# Altium footprint library SamacSys.PcbLib: 35 footprints (part 1 of 3)
Each footprint in its own frame and in the unit in brackets; x right, y up, seen from the top. Pads: shape width x height; smd on the part's side, far side on the other; paste and mask are expansions set on the pad; w line width, h text height; cw(c..) or ccw(c..) is an arc to the next point about the centre after c.
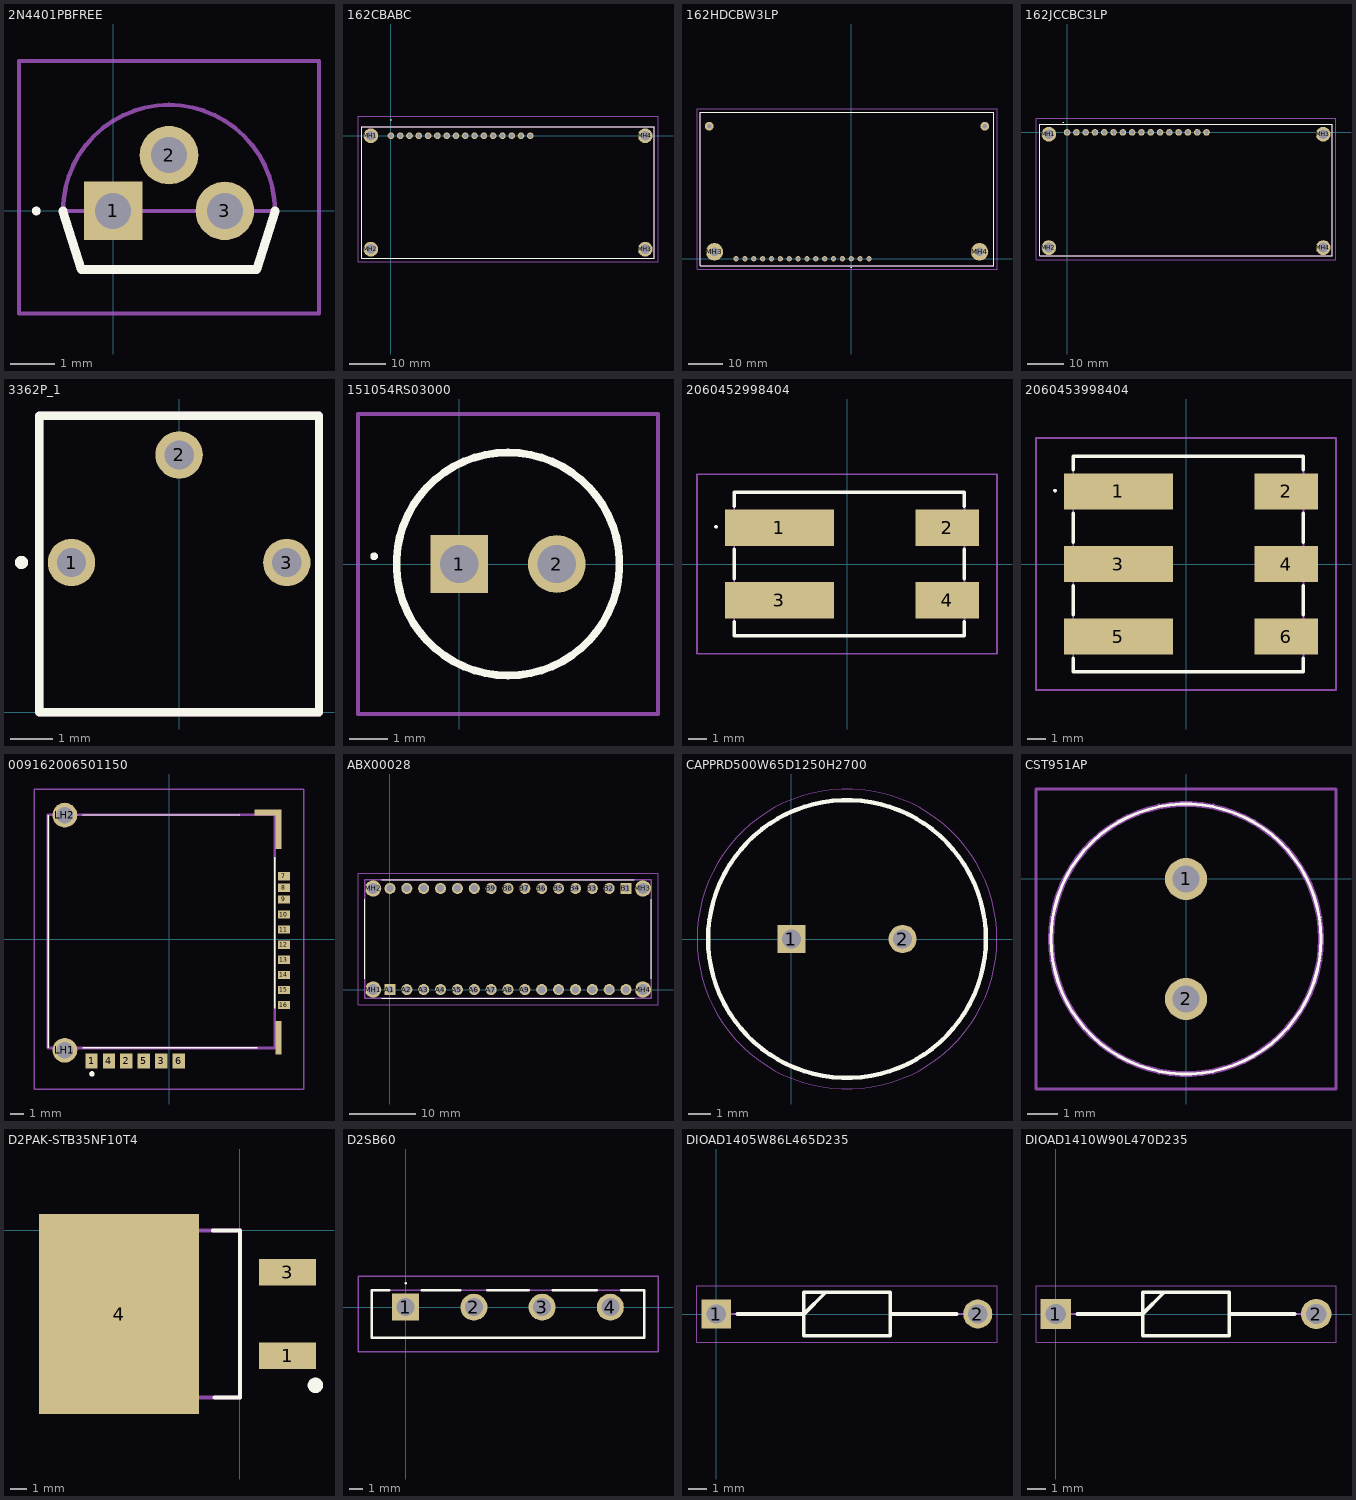
[diagram p0: the footprints below, top view; thin cyan lines are the x and y axes]

## 2N4401PBFREE [mm]
pads (3):
  rect 1.333x1.333 hole 0.82: 1(0,0)
  round 1.333 hole 0.82: 2(1.27,1.27) 3(2.54,0)
Top Overlay:
  lines w0.1: -1.8,0 cw(c-1.75,0) -1.7,0 cw(c-1.75,0) -1.8,0
  lines w0.2: -1.145,0 -0.73,-1.335 3.27,-1.335 3.685,0
Mechanical 13:
  lines w0.1: -1.145,0 cw(c1.27,0) 3.685,0 ; -1.145,0 -0.73,-1.335 3.27,-1.335 3.685,0 ; -1.145,0 3.685,0
Mechanical 15:
  lines w0.1: -2.145,-2.335 -2.145,3.415 4.685,3.415 4.685,-2.335 -2.145,-2.335
3D body "2N4401_PBFREE.stp": height 6.06, standoff -13.46, extent -1.17,-1.3 3.59,2.33

## 162CBABC [mm]
pads (20):
  round 1.8 hole 1.2: 1(0,0) 2(2.54,0) 3(5.08,0) 4(7.62,0) 5(10.16,0) 6(12.7,0) 7(15.24,0) 8(17.78,0) 9(20.32,0) 10(22.86,0) 11(25.4,0) 12(27.94,0) 13(30.48,0) 14(33.02,0) 15(35.56,0) 16(38.1,0)
  round 4.05 hole 2.7: MH1(-5.5,0) MH2(-5.5,-31) MH3(69.5,-31) MH4(69.5,0)
Top Overlay:
  lines w0.1: -8,-33.5 -8,2.5 72,2.5 72,-33.5 -8,-33.5
  lines w0.2: 0,4.3 ccw(c0,4.35) 0,4.4 ; 0,4.3 cw(c0,4.35) 0,4.4 ; 0,4.3 ccw(c0,4.35) 0,4.4
Mechanical 13:
  lines w0.2: -8,-33.5 -8,2.5 72,2.5 72,-33.5 -8,-33.5
Mechanical 15:
  lines w0.1: -9,-34.5 -9,5.4 73,5.4 73,-34.5 -9,-34.5
3D body "162C-BA-BC.stp": height 10.39, standoff -3.81, extent -7.96,-33.72 72.04,2.28

## 162HDCBW3LP [mm]
pads (20):
  round 1.5 hole 1: 1(0,0) 2(-2.54,0) 3(-5.08,0) 4(-7.62,0) 5(-10.16,0) 6(-12.7,0) 7(-15.24,0) 8(-17.78,0) 9(-20.32,0) 10(-22.86,0) 11(-25.4,0) 12(-27.94,0) 13(-30.48,0) 14(-33.02,0) 15(5.08,0) 16(2.54,0)
  round 2.5 hole 1.25: MH1(-40.72,38) MH2(38.28,38)
  round 5 hole 2.5: MH3(-39.22,2) MH4(36.78,2)
Top Overlay:
  lines w0.1: 0,-2.6 ccw(c0,-2.55) 0,-2.5 ccw(c0,-2.55) 0,-2.6
  lines w0.2: -43.22,-2 40.78,-2 40.78,42 -43.22,42 -43.22,-2
Mechanical 13:
  lines w0.1: -43.22,-2 40.78,-2 40.78,42 -43.22,42 -43.22,-2
Mechanical 15:
  lines w0.1: -44.22,-3 41.78,-3 41.78,43 -44.22,43 -44.22,-3
3D body "162H_DC_BW-3LP.stp": height 13.3, standoff -5, extent -43.22,-2 40.78,42

## 162JCCBC3LP [mm]
pads (20):
  round 1.8 hole 1.2: 1(0,0) 2(2.54,0) 3(5.08,0) 4(7.62,0) 5(10.16,0) 6(12.7,0) 7(15.24,0) 8(17.78,0) 9(20.32,0) 10(22.86,0) 11(25.4,0) 12(27.94,0) 13(30.48,0) 14(33.02,0) 15(35.56,0) 16(38.1,0)
  round 4.05 hole 2.7: MH1(-5,-0.5) MH2(-5,-31.5) MH3(70,-0.5) MH4(70,-31.5)
Top Overlay:
  lines w0.1: -7.5,-33.75 72.5,-33.75 72.5,2.25 -7.5,2.25 -7.5,-33.75
  lines w0.2: -1.1,2.75 cw(c-1.05,2.75) -1,2.75 cw(c-1.05,2.75) -1.1,2.75
Mechanical 13:
  lines w0.2: -7.5,-33.75 72.5,-33.75 72.5,2.25 -7.5,2.25 -7.5,-33.75
Mechanical 15:
  lines w0.1: -8.5,-34.75 73.5,-34.75 73.5,3.8 -8.5,3.8 -8.5,-34.75
3D body "162J_CC_BC-3LP.stp": height 13.2, standoff 0, extent -7.5,-33.47 72.5,2.53

## 3362P_1 [mm]
pads (3):
  round 1.12 hole 0.69: 1(-2.54,3.53) 2(0,6.07) 3(2.54,3.53)
Top Overlay:
  circle w0.2: c-3.722,3.532 r0.057
  lines w0.2: -3.3,0 3.3,0 3.3,6.99 -3.3,6.99 -3.3,0
Mechanical 13:
  lines w0.2: -3.3,0 -3.3,6.99 3.3,6.99 3.3,0 -3.3,0
3D body "3362P-1-104LF.stp": height 3.22, standoff -6.28, extent -3.24,-0.04 3.36,6.95

## 151054RS03000 [mm]
pads (2):
  rect 1.5x1.5 hole 1: 1(0,0)
  round 1.5 hole 1: 2(2.54,0)
Top Overlay:
  lines w0.1: -2.26,0.2 cw(c-2.21,0.2) -2.16,0.2 cw(c-2.21,0.2) -2.26,0.2
  lines w0.2: 1.27,-2.9 ccw(c1.27,0) 1.27,2.9 ccw(c1.27,0) 1.27,-2.9
Mechanical 13:
  lines w0.1: 1.27,-2.9 ccw(c1.27,0) 1.27,2.9 ccw(c1.27,0) 1.27,-2.9
Mechanical 15:
  lines w0.1: -2.63,-3.9 -2.63,3.9 5.17,3.9 5.17,-3.9 -2.63,-3.9
3D body "151054RS03000.stp": height 12.2, standoff -5, extent -1.618,-2.9 4.158,2.9

## 2060452998404 [mm]
pads (4):
  rect 6x2 smd: 1(-3.725,2) 3(-3.725,-2)
  rect 3.5x2 smd: 2(5.525,2) 4(5.525,-2)
Top Overlay:
  lines w0.1: -7.225,2 ccw(c-7.225,2.05) -7.225,2.1 ccw(c-7.225,2.05) -7.225,2
  lines w0.2: -6.225,-3.2 -6.225,-3.95 6.475,-3.95 6.475,-3.2 ; -6.225,-0.8 -6.225,0.8 ; -6.225,3.2 -6.225,3.95 6.475,3.95 6.475,3.2 ; 6.475,-0.8 6.475,0.8
Mechanical 13:
  lines w0.1: -6.225,-3.95 6.475,-3.95 6.475,3.95 -6.225,3.95 -6.225,-3.95
Mechanical 15:
  lines w0.1: -8.275,-4.95 8.275,-4.95 8.275,4.95 -8.275,4.95 -8.275,-4.95
3D body "2060-452_998-404.stp": height 4.5, standoff 0, extent -6.55,-3.95 6.55,3.95

## 2060453998404 [mm]
pads (6):
  rect 6x2 smd: 1(-3.725,4) 3(-3.725,0) 5(-3.725,-4)
  rect 3.5x2 smd: 2(5.525,4) 4(5.525,0) 6(5.525,-4)
Top Overlay:
  lines w0.1: -7.225,4 cw(c-7.225,4.05) -7.225,4.1 cw(c-7.225,4.05) -7.225,4
  lines w0.2: -6.225,-5.2 -6.225,-5.95 6.475,-5.95 6.475,-5.2 ; -6.225,-2.8 -6.225,-1.2 ; -6.225,1.2 -6.225,2.8 ; -6.225,5.2 -6.225,5.95 6.475,5.95 6.475,5.2 ; 6.475,-2.8 6.475,-1.2 ; 6.475,1.2 6.475,2.8
Mechanical 13:
  lines w0.1: -6.225,-5.95 -6.225,5.95 6.475,5.95 6.475,-5.95 -6.225,-5.95
Mechanical 15:
  lines w0.1: -8.275,-6.95 -8.275,6.95 8.275,6.95 8.275,-6.95 -8.275,-6.95
3D body "2060-453_998-404.stp": height 4.5, standoff 0, extent -6.55,-5.95 6.55,5.95

## 009162006501150 [mm]
pads (21):
  rect 0.9x1.09 smd: 1(-5.647,-8.896) 2(-3.107,-8.896) 3(-0.567,-8.896) 4(-4.377,-8.896) 5(-1.837,-8.896) 6(0.703,-8.896)
  rect 0.86x0.6 smd: 7(8.387,4.584) 8(8.387,3.734) 9(8.387,2.884) 10(8.387,1.784) 11(8.387,0.684) 12(8.387,-0.416) 13(8.387,-1.516) 14(8.387,-2.616) 15(8.387,-3.716) 16(8.387,-4.816)
  rect 0.45x2.45 smd: 17(7.983,-7.216)
  rect 0.45x2.9 smd: 18(7.977,8.009)
  rect 1.95x0.45 smd: 19(7.227,9.234)
  round 1.812 hole 1.208: LH1(-7.598,-8.116) LH2(-7.598,9.034)
Top Overlay:
  lines w0.1: -8.817,-7.946 -8.817,9.034 ; -6.277,-7.946 6.423,-7.946 ; -6.277,9.034 5.153,9.054 ; 7.713,-5.041 7.713,5.959
  lines w0.2: -5.718,-9.841 cw(c-5.618,-9.841) -5.518,-9.841 cw(c-5.618,-9.841) -5.718,-9.841
Mechanical 13:
  lines w0.2: -8.817,-7.946 7.713,-7.946 7.713,9.054 -8.817,9.054 -8.817,-7.946
Mechanical 15:
  lines w0.1: -9.817,-10.941 9.817,-10.941 9.817,10.941 -9.817,10.941 -9.817,-10.941
3D body "009162006501150.stp": height 2.45, standoff -0.45, extent -8.89,-8.8 8.424,9.426

## ABX00028 [mm]
pads (34):
  rect 1.665x1.665 hole 1.11: A1(0,0) B1(35.56,15.24)
  round 1.665 hole 1.11: A2(2.54,0) A3(5.08,0) A4(7.62,0) A5(10.16,0) A6(12.7,0) A7(15.24,0) A8(17.78,0) A9(20.32,0) A10(22.86,0) A11(25.4,0) A12(27.94,0) A13(30.48,0) A14(33.02,0) A15(35.56,0) B2(33.02,15.24) B3(30.48,15.24) B4(27.94,15.24) B5(25.4,15.24) B6(22.86,15.24) B7(20.32,15.24) B8(17.78,15.24) B9(15.24,15.24) B10(12.7,15.24) B11(10.16,15.24) B12(7.62,15.24) B13(5.08,15.24) B14(2.54,15.24) B15(0,15.24)
  round 2.475 hole 1.65: MH1(-2.54,0) MH2(-2.54,15.24) MH3(38.1,15.24) MH4(38.1,0)
Top Overlay:
  lines w0.1: -3.81,1.62 -3.81,13.62 ; -1.22,-1.27 36.78,-1.27 ; -1.22,16.51 36.78,16.51 ; 39.37,1.62 39.37,13.62
Mechanical 13:
  lines w0.2: -3.81,-1.27 -3.81,16.51 39.37,16.51 39.37,-1.27 -3.81,-1.27
Mechanical 15:
  lines w0.1: -4.81,-2.27 -4.81,17.51 40.37,17.51 40.37,-2.27 -4.81,-2.27
3D body "ABX00028.stp": height 6, standoff -6, extent -4.94,-1.27 39.39,16.51

## CAPPRD500W65D1250H2700 [mm]
pads (2):
  rect 1.275x1.275 hole 0.85: 1(0,0)
  round 1.275 hole 0.85: 2(5,0)
Top Overlay:
  circle w0.2: c2.5,0 r6.25
Mechanical 13:
  circle w0.1: c2.5,0 r6.25
Mechanical 15:
  circle w0.05: c2.5,0 r6.75
3D body "EEUTA1E102LB.stp": height 27, standoff -10, extent -3.987,-6.497 9,6.497

## CST951AP [mm]
pads (2):
  round 1.4 hole 0.9: 1(0,0) 2(0,-4)
Top Overlay:
  lines w0.1: -4.5,-2 cw(c0,-2) 4.5,-2 cw(c0,-2) -4.5,-2
Mechanical 13:
  lines w0.2: -4.5,-2 cw(c0,-2) 4.5,-2 cw(c0,-2) -4.5,-2
Mechanical 15:
  lines w0.1: -5,-7 -5,3 5,3 5,-7 -5,-7
3D body "CST-951AP.stp": height 4.6, standoff -5, extent -4.5,-6.5 4.5,2.5

## D2PAK-STB35NF10T4 [mm]
pads (3):
  rect 3.5x1.6 smd: 1(2.904,-7.64) 3(2.904,-2.56)
  rect 9.75x12.2 smd: 4(-7.371,-5.1)
Top Overlay:
  circle w0.5: c4.603,-9.449 r0.219
  lines w0.254: -1.644,0 0,0 0,-10.2 -1.535,-10.2
Mechanical 13:
  lines w0.254: -9.15,-10.2 0,-10.2 0,0 -9.15,0 -9.15,-10.2
3D body "L7805ACD2T-TR.stp": height 4.6, standoff 0, extent -11.645,-10.282 4.247,0.082

## D2SB60 [mm]
pads (4):
  rect 1.98x1.98 hole 1.32: 1(0,0)
  round 1.98 hole 1.32: 2(5,0) 3(10,0) 4(15,0)
Top Overlay:
  lines w0.1: 0,1.7 ccw(c0,1.75) 0,1.8 ccw(c0,1.75) 0,1.7
  lines w0.2: -1.2,1.25 -2.5,1.25 -2.5,-2.25 17.5,-2.25 17.5,1.25 15.8,1.25 ; 1.2,1.25 4,1.25 ; 6,1.25 9,1.25 ; 10.8,1.25 14,1.25
Mechanical 13:
  lines w0.1: -2.5,-2.25 -2.5,1.25 17.5,1.25 17.5,-2.25 -2.5,-2.25
Mechanical 15:
  lines w0.1: -3.5,-3.25 -3.5,2.25 18.5,2.25 18.5,-3.25 -3.5,-3.25
3D body "D2SB60.stp": height 11.4, standoff -5, extent -2.5,-2.25 17.5,1.25

## DIOAD1405W86L465D235 [mm]
pads (2):
  rect 1.575x1.575 hole 1.05: 1(0,0)
  round 1.575 hole 1.05: 2(14.1,0)
Top Overlay:
  lines w0.2: 1.138,0 4.725,0 5.9,1.175 ; 9.375,0 12.962,0 ; 4.725,-1.175 9.375,-1.175 9.375,1.175 4.725,1.175 4.725,-1.175
Mechanical 13:
  lines w0.1: 0,0 4.725,0 5.9,1.175 ; 9.375,0 14.1,0 ; 4.725,-1.175 9.375,-1.175 9.375,1.175 4.725,1.175 4.725,-1.175
Mechanical 15:
  lines w0.05: -1.038,-1.525 15.137,-1.525 15.137,1.525 -1.038,1.525 -1.038,-1.525
3D body "1N4007-E3_73.stp": height 2.7, standoff -2.7, extent -0.43,-1.34 14.48,1.34

## DIOAD1410W90L470D235 [mm]
pads (2):
  rect 1.65x1.65 hole 1.1: 1(0,0)
  round 1.65 hole 1.1: 2(14.1,0)
Top Overlay:
  lines w0.2: 1.175,0 4.7,0 5.875,1.175 ; 9.4,0 12.925,0 ; 4.7,-1.175 4.7,1.175 9.4,1.175 9.4,-1.175 4.7,-1.175
Mechanical 13:
  lines w0.1: 0,0 4.7,0 5.875,1.175 ; 9.4,0 14.1,0 ; 4.7,-1.175 4.7,1.175 9.4,1.175 9.4,-1.175 4.7,-1.175
Mechanical 15:
  lines w0.05: -1.075,-1.525 -1.075,1.525 15.175,1.525 15.175,-1.525 -1.075,-1.525
3D body "1N4007-G.stp": height 2.7, standoff -2.7, extent -0.45,-1.34 14.55,1.34